# Altium schematic symbol library SS-5GLD2.SchLib: 1 symbol
Pins are listed as number, name and electrical type; pins without a type are passive.

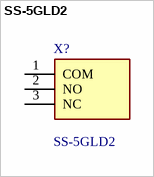
[diagram p0: symbol SS-5GLD2]

## SS-5GLD2
designator X?
Microswitch, Subminiature, Hinge Roller Lever, SPDT, Through Hole, 5 A Current Rating (Amps)   5A (AC); Manufacturer_Name: OMRON Electronics; Geometry.Height: 12.9mm; Manufacturer_Part_Number: SS-5GLD2; Mouser Part Number: 653-SS-5GLD2; Mouser Price/Stock: https://www.mouser.co.uk/ProductDetail/Omron-Electronics/SS-5GLD2?qs=1tDaWCEHQQ5Kjmt2FsnuUw%3D%3D; Arrow Part Number: *; Arrow Price/Stock: *; Datasheet Link: https://omronfs.omron.com/en_US/ecb/products/pdf/en-ss.pdf
footprint SS5GLD2
pins: 1 COM, 2 NO, 3 NC